# Altium integrated library thx208.IntLib: 1 symbol
Pins are listed as number, name and electrical type; pins without a type are passive.

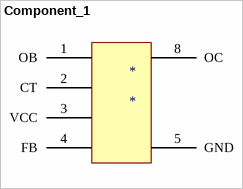
[diagram p0: symbol Component_1]

## Component_1
designator *
footprint PCBComponent_1
pins: 1 OB, 2 CT, 3 VCC, 4 FB, 5 GND, 8 OC